# EAGLE library part 514ИД2П (library 514)
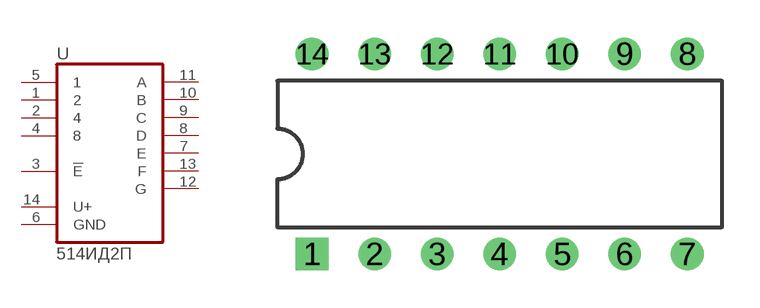
[diagram p0: symbol with the pads of 238.14-1; footprint 238.14-1]

Designator prefix -

## 514ИД2П''П  [238.14-1]
1  2  in
2  4  in
3  !E  in
4  8  in
5  1  in
6  GND  in
7  E  out
8  D  out
9  C  out
10  B  out
11  A  out
12  G  out
13  F  out
14  U+  in

## Footprint 238.14-1 (pad centres in mm)
drill 0.8 square: 1 -7.5,-4
drill 0.8: 2 -5,-4; 3 -2.5,-4; 4 0,-4; 5 2.5,-4; 6 5,-4; 7 7.5,-4; 8 7.5,4; 9 5,4; 10 2.5,4; 11 0,4; 12 -2.5,4; 13 -5,4; 14 -7.5,4